# Altium footprint library PCB - POWER INDUCTORS - BOURNS SRP4020T.PcbLib: 1 footprints
Each footprint in its own frame and in the unit in brackets; x right, y up, seen from the top. Pads: shape width x height; smd on the part's side, far side on the other; paste and mask are expansions set on the pad; w line width, h text height; cw(c..) or ccw(c..) is an arc to the next point about the centre after c.
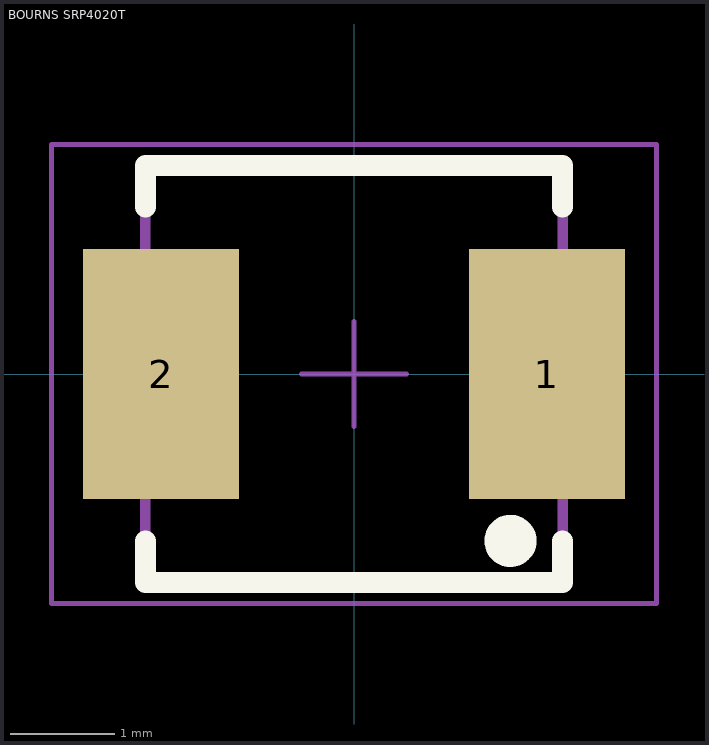
[diagram p0: the footprint, top view; thin cyan lines are the x and y axes]

## BOURNS SRP4020T [mm] "SMD Power Inductor, 2-Leads, body 4x4mm"
height 2
pads (2):
  rect 1.5x2.4 smd: 1(1.85,0) 2(-1.85,0)
Top Overlay:
  circle w0.25: c1.5,-1.6 r0.125
  lines w0.2: -2,-1.6 -2,-2 2,-2 2,-1.6 ; -2,1.6 -2,2 2,2 2,1.6
Top 3D Body:
  lines w0.1: -2,-2 -2,2 2,2 2,-2 -2,-2
Top Component Outline:
  lines w0.1: -2,-2 -2,2 2,2 2,-2 -2,-2
Top Courtyard:
  lines w0.05: -0.5,0 0.5,0 ; 0,-0.5 0,0.5 ; -2.9,-2.2 2.9,-2.2 2.9,2.2 -2.9,2.2 -2.9,-2.2
3D body "Bourns SRP4020T.step": height 2, standoff 0, extent -2.225,-2.03 2.225,2.03